# EAGLE library part RASPBERRY_PICO_V1_TEMPLATE (library RpiPico)
Raspberry Pi Pico
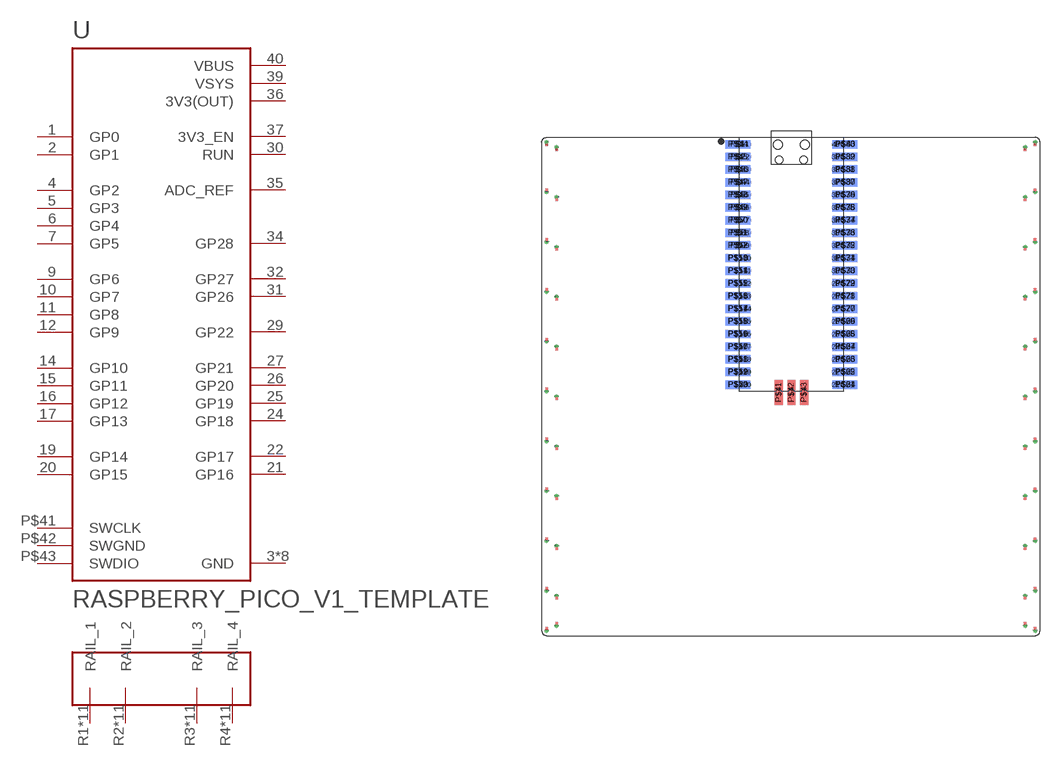
[diagram p3: symbol with the pads of PICO-FOR-V1-TEMPLATE; footprint PICO-FOR-V1-TEMPLATE]

Designator prefix U

## RASPBERRY_PICO_V1_TEMPLATE  [PICO-FOR-V1-TEMPLATE]
1  GP0
2  GP1
3  GND  pwr
4  GP2
5  GP3
6  GP4
7  GP5
8  GND  pwr
9  GP6
10  GP7
11  GP8
12  GP9
13  GND  pwr
14  GP10
15  GP11
16  GP12
17  GP13
18  GND  pwr
19  GP14
20  GP15
21  GP16
22  GP17
23  GND  pwr
24  GP18
25  GP19
26  GP20
27  GP21
28  GND  pwr
29  GP22
30  RUN  in
31  GP26
32  GP27
33  GND  pwr
34  GP28
35  ADC_REF  in
36  3V3(OUT)  pwr
37  3V3_EN  in
38  GND  pwr
39  VSYS  pwr
40  VBUS  pwr
P$41  SWCLK  in
P$42  SWGND  pwr
P$43  SWDIO
R1  RAIL_1
R1.1  RAIL_1
R1.2  RAIL_1
R1.3  RAIL_1
R1.4  RAIL_1
R1.5  RAIL_1
R1.6  RAIL_1
R1.7  RAIL_1
R1.8  RAIL_1
R1.9  RAIL_1
R1.10  RAIL_1
R2  RAIL_2
R2.1  RAIL_2
R2.2  RAIL_2
R2.3  RAIL_2
R2.4  RAIL_2
R2.5  RAIL_2
R2.6  RAIL_2
R2.7  RAIL_2
R2.8  RAIL_2
R2.9  RAIL_2
R2.10  RAIL_2
R3  RAIL_3
R3.1  RAIL_3
R3.2  RAIL_3
R3.3  RAIL_3
R3.4  RAIL_3
R3.5  RAIL_3
R3.6  RAIL_3
R3.7  RAIL_3
R3.8  RAIL_3
R3.9  RAIL_3
R3.10  RAIL_3
R4  RAIL_4
R4.1  RAIL_4
R4.2  RAIL_4
R4.3  RAIL_4
R4.4  RAIL_4
R4.5  RAIL_4
R4.6  RAIL_4
R4.7  RAIL_4
R4.8  RAIL_4
R4.9  RAIL_4
R4.10  RAIL_4

## Footprint PICO-FOR-V1-TEMPLATE (pad centres in mm)
drill 1: 1 -8.79,23.63; 2 -8.79,21.09; 3 -8.79,18.55; 4 -8.79,16.01; 5 -8.79,13.47; 6 -8.79,10.93; 7 -8.79,8.39; 8 -8.79,5.85; 9 -8.79,3.31; 10 -8.79,0.77; 11 -8.79,-1.77; 12 -8.79,-4.31; 13 -8.79,-6.85; 14 -8.79,-9.39; 15 -8.79,-11.93; 16 -8.79,-14.47; 17 -8.79,-17.01; 18 -8.79,-19.55; 19 -8.79,-22.09; 20 -8.79,-24.63; 21 8.99,-24.63; 22 8.99,-22.09; 23 8.99,-19.55; 24 8.99,-17.01; 25 8.99,-14.47; 26 8.99,-11.93; 27 8.99,-9.39; 28 8.99,-6.85; 29 8.99,-4.31; 30 8.99,-1.77; 31 8.99,0.77; 32 8.99,3.31; 33 8.99,5.85; 34 8.99,8.39; 35 8.99,10.93; 36 8.99,13.47; 37 8.99,16.01; 38 8.99,18.55; 39 8.99,21.09; 40 8.99,23.63
smd 5.024 x 1.7: P$1 -10.662,23.63; P$2 -10.662,21.09; P$3 -10.662,18.55; P$4 -10.662,16.01; P$5 -10.662,13.47; P$6 -10.662,10.93; P$7 -10.662,8.39; P$8 -10.662,5.85; P$9 -10.662,3.31; P$10 -10.662,0.77; P$11 -10.662,-1.77; P$12 -10.662,-4.31; P$13 -10.662,-6.85; P$14 -10.662,-9.39; P$15 -10.662,-11.93; P$16 -10.662,-14.47; P$17 -10.662,-17.01; P$18 -10.662,-19.55; P$19 -10.662,-22.09; P$20 -10.662,-24.63; P$21 10.862,-24.63; P$22 10.862,-22.09; P$23 10.862,-19.55; P$24 10.862,-17.01; P$25 10.862,-14.47; P$26 10.862,-11.93; P$27 10.862,-9.39; P$28 10.862,-6.85; P$29 10.862,-4.31; P$30 10.862,-1.77; P$31 10.862,0.77; P$32 10.862,3.31; P$33 10.862,5.85; P$34 10.862,8.39; P$35 10.862,10.93; P$36 10.862,13.47; P$37 10.862,16.01; P$38 10.862,18.55; P$39 10.862,21.09; P$40 10.862,23.63
smd 1.7 x 5.024: P$41 -2.44,-26.187; P$42 0.1,-26.187; P$43 2.64,-26.187
smd 5.024 x 1.7 bottom: P$44 -10.662,23.63; P$45 -10.662,21.09; P$46 -10.662,18.55; P$47 -10.662,16.01; P$48 -10.662,13.47; P$49 -10.662,10.93; P$50 -10.662,8.39; P$51 -10.662,5.85; P$52 -10.662,3.31; P$53 -10.662,0.77; P$54 -10.662,-1.77; P$55 -10.662,-4.31; P$56 -10.662,-6.85; P$57 -10.662,-9.39; P$58 -10.662,-11.93; P$59 -10.662,-14.47; P$60 -10.662,-17.01; P$61 -10.662,-19.55; P$62 -10.662,-22.09; P$63 -10.662,-24.63; P$64 10.862,-24.63; P$65 10.862,-22.09; P$66 10.862,-19.55; P$67 10.862,-17.01; P$68 10.862,-14.47; P$69 10.862,-11.93; P$70 10.862,-9.39; P$71 10.862,-6.85; P$72 10.862,-4.31; P$73 10.862,-1.77; P$74 10.862,0.77; P$75 10.862,3.31; P$76 10.862,5.85; P$77 10.862,8.39; P$78 10.862,10.93; P$79 10.862,13.47; P$80 10.862,16.01; P$81 10.862,18.55; P$82 10.862,21.09; P$83 10.862,23.63
drill 0.305 pad 0.813: P$87 -49,24; P$88 -49,14; P$89 -49,4; P$90 -49,-6; P$91 -49,-16; P$92 -49,-26; P$93 -49,-36; P$94 -49,-46; P$95 -49,-56; P$96 -49,-66; P$97 -49,-74; P$98 -47,23; P$99 -47,13; P$100 -47,3; P$101 -47,-7; P$102 -47,-17; P$103 -47,-27; P$104 -47,-37; P$105 -47,-47; P$106 -47,-57; P$107 -47,-67; P$108 -47,-73; P$109 49,24; P$110 49,14; P$111 49,4; P$112 49,-6; P$113 49,-16; P$114 49,-26; P$115 49,-36; P$116 49,-46; P$117 49,-56; P$118 49,-66; P$119 49,-74; P$120 47,23; P$121 47,13; P$122 47,3; P$123 47,-7; P$124 47,-17; P$125 47,-27; P$126 47,-37; P$127 47,-47; P$128 47,-57; P$129 47,-67; P$130 47,-73
smd 0.5 x 0.5: R1 -49,23.5; R1.1 -49,14.5; R1.2 -49,4.5; R1.3 -49,-5.5; R1.4 -49,-15.5; R1.5 -49,-25.5; R1.6 -49,-35.5; R1.7 -49,-45.5; R1.8 -49,-55.5; R1.9 -49,-65.5; R1.10 -49,-73.5; R2 -47,22.5; R2.1 -47,12.5; R2.2 -47,2.5; R2.3 -47,-7.5; R2.4 -47,-17.5; R2.5 -47,-27.5; R2.6 -47,-37.5; R2.7 -47,-47.5; R2.8 -47,-57.5; R2.9 -47,-67.5; R2.10 -47,-72.5; R3 47,22.5; R3.1 47,12.5; R3.2 47,2.5; R3.3 47,-7.5; R3.4 47,-17.5; R3.5 47,-27.5; R3.6 47,-37.5; R3.7 47,-47.5; R3.8 47,-57.5; R3.9 47,-67.5; R3.10 47,-72.5; R4 49,23.5; R4.1 49,14.5; R4.2 49,4.5; R4.3 49,-5.5; R4.4 49,-15.5; R4.5 49,-25.5; R4.6 49,-35.5; R4.7 49,-45.5; R4.8 49,-55.5; R4.9 49,-65.5; R4.10 49,-73.5
hole 1.8 at -2.625,23.5
hole 1.8 at 2.825,23.5
hole 1.5 at -2.325,20.47
hole 1.5 at 2.525,20.47